# EAGLE library part SSW-106-02-G-D-RA (library SSW-106-02-G-D-RA)
12 Position Receptacle Connector 0.100" (2.54mm) Through Hole, Right Angle Gold Source: Datasheet <http://suddendocs.samtec.com/prints/ssw-1xx-xx-xxx-x-xx-xxx-xx-mkt.pdf>
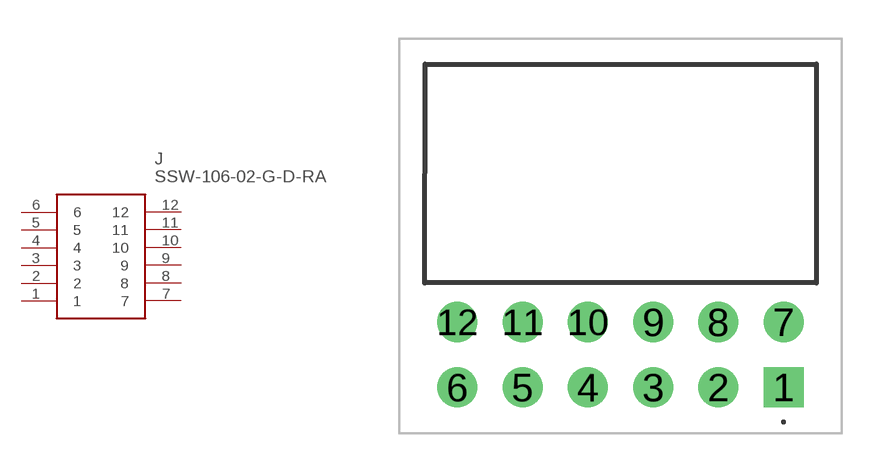
[diagram p0: symbol with the pads of SSW10602GDRA; footprint SSW10602GDRA]

Designator prefix J

## SSW-106-02-G-D-RA (Description: 12 Position Receptacle Connector 0.100" (2.54mm) Through Hole, Right Angle Gold; Height: 5.25mm; Manufacturer_Name: SAMTEC; Manufacturer_Part_Number: SSW-106-02-G-D-RA; Mouser_Part_Number: 200-SSW10602GDRA; Mouser_Price-Stock: https://www.mouser.co.uk/ProductDetail/Samtec/SSW-106-02-G-D-RA?qs=rU5fayqh%252BE3y2WIzbQXf2g%3D%3D)  [SSW10602GDRA]
1  1
2  2
3  3
4  4
5  5
6  6
7  7
8  8
9  9
10  10
11  11
12  12

## Footprint SSW10602GDRA (pad centres in mm)
SSW-106-02-G-D-RA-1
drill 1.04 pad 1.56 square: 1 0,0
drill 1.04 pad 1.56: 2 -2.54,0; 3 -5.08,0; 4 -7.62,0; 5 -10.16,0; 6 -12.7,0; 7 0,2.54; 8 -2.54,2.54; 9 -5.08,2.54; 10 -7.62,2.54; 11 -10.16,2.54; 12 -12.7,2.54